# Altium footprint library STC16.PcbLib: 33 footprints (part 1 of 3)
Each footprint in its own frame and in the unit in brackets; x right, y up, seen from the top. Pads: shape width x height; smd on the part's side, far side on the other; paste and mask are expansions set on the pad; w line width, h text height; cw(c..) or ccw(c..) is an arc to the next point about the centre after c.
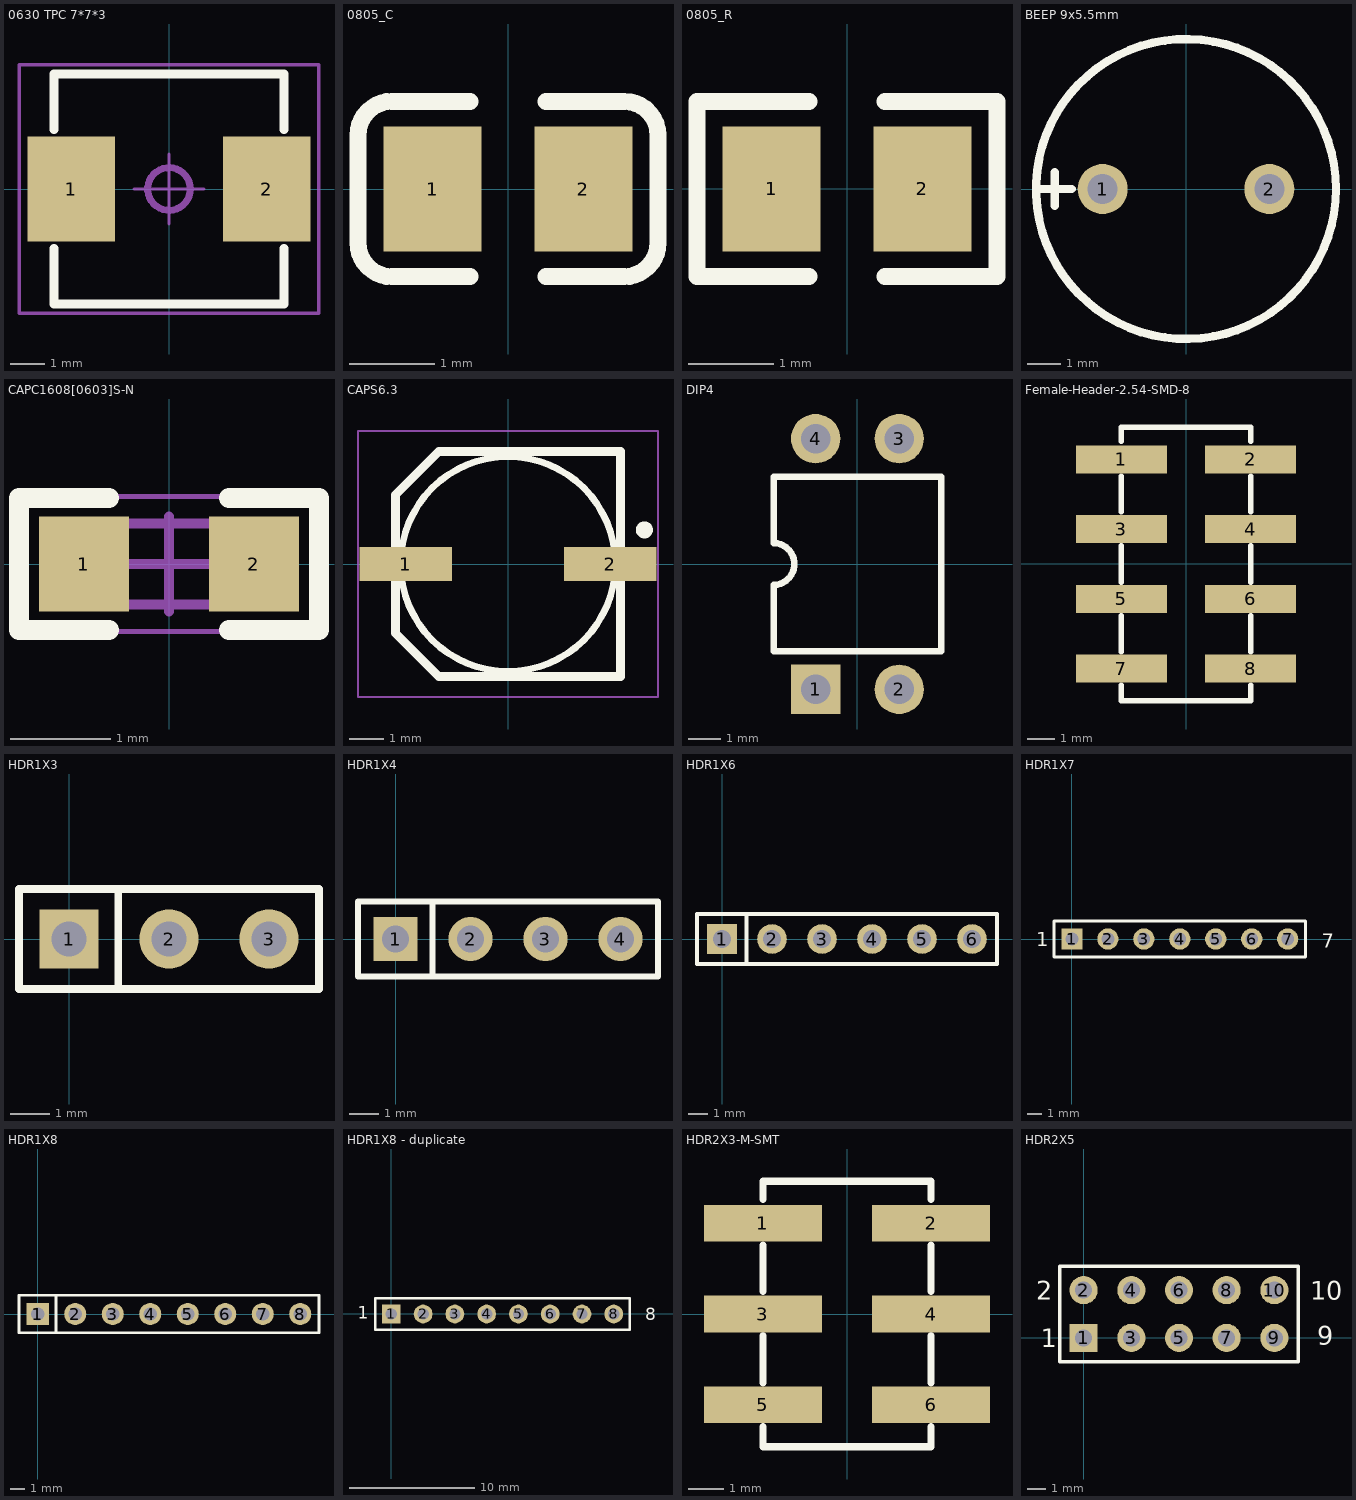
[diagram p0: the footprints below, top view; thin cyan lines are the x and y axes]

## 0630 TPC 7*7*3 [mm]
pads (2):
  rect 2.5x3 smd: 1(-2.8,0) 2(2.8,0)
Top Overlay:
  lines w0.254: -3.3,-1.7 -3.3,-3.3 3.3,-3.3 3.3,-1.7 ; -3.3,1.7 -3.3,3.3 3.3,3.3 3.3,1.7
Mechanical 15:
  circle w0.2: c0,0 r0.612
  lines w0.1: -1,0 1,0 ; 0,-1 0,1 ; -4.293,-3.556 4.293,-3.556 4.293,3.556 -4.293,3.556 -4.293,-3.556
3D body: height 3, standoff 0, extent -3.3,-3.3 3.3,3.3

## 0805_C [mm]
pads (2):
  rect 1.16x1.47 smd: 1(-0.89,0) 2(0.89,0)
Top Overlay:
  lines w0.2: -0.45,-1.035 -1.37,-1.035 cw(c-1.37,-0.635) -1.77,-0.635 -1.77,0.635 cw(c-1.37,0.635) -1.37,1.035 -0.45,1.035 ; 0.45,-1.035 1.37,-1.035 ccw(c1.37,-0.635) 1.77,-0.635 1.77,0.635 ccw(c1.37,0.635) 1.37,1.035 0.45,1.035
3D body "User Library-0805 SMD Capacitor.STEP": height 0.77, standoff -0.01, extent -0.999,-0.625 1.001,0.625

## 0805_R [mm]
pads (2):
  rect 1.16x1.47 smd: 1(-0.89,0) 2(0.89,0)
Top Overlay:
  lines w0.2: -0.45,-1.035 -1.77,-1.035 -1.77,1.035 -0.45,1.035 ; 0.45,-1.035 1.77,-1.035 1.77,1.035 0.45,1.035
3D body "User Library-R_0805.STEP": height 0.49, standoff -0.01, extent -0.997,-0.625 1.003,0.625

## BEEP 9x5.5mm [mm]
pads (2):
  round 1.5 hole 0.9: 1(-2.5,0) 2(2.5,0)
Top Overlay:
  circle w0.254: c0,0 r4.5
  lines w0.254: -4.496,0 -3.429,0 ; -3.937,-0.508 -3.937,0.508
3D body "cx-0905c.stp": height 5.05, standoff -5.45, extent -4.8,-4.8 4.8,4.8

## CAPC1608[0603]S-N [mm]
pads (2):
  rect 0.9x0.95 smd: 1(-0.85,0) 2(0.85,0)
Top Overlay:
  lines w0.2: -0.6,-0.66 -1.499,-0.66 -1.499,0.66 -0.6,0.66 ; 0.6,-0.66 1.499,-0.66 1.499,0.66 0.6,0.66
Mechanical 13:
  lines w0.1: -0.8,-0.406 0.825,-0.406 0.825,0.406 -0.8,0.406 -0.8,-0.406
Mechanical 15:
  lines w0.05: -1.5,-0.675 -1.5,0.675 1.5,0.675 1.5,-0.675 -1.5,-0.675
  lines w0.1: -0.475,0 0.475,0 ; 0,-0.475 0,0.475
3D body: height 0.79, standoff 0, extent -0.8,-0.406 -0.45,0.406
3D body: height 0.79, standoff 0, extent 0.45,-0.406 0.8,0.407
3D body: height 0.79, standoff 0, extent -0.45,-0.406 0.45,0.406

## CAPS6.3 [mm]
pads (2):
  rect 2.7x1 smd: 1(-3,0) 2(3,0)
Top Overlay:
  circle w0.25: c4,1 r0.125
  circle w0.2: c0,0 r3.15
  lines w0.254: -3.3,2.032 -3.3,-2.032 -2.032,-3.3 3.3,-3.3 3.3,3.3 -2.032,3.3 -3.287,2.045
Mechanical 15:
  lines w0.05: -4.4,-3.9 4.4,-3.9 4.4,3.9 -4.4,3.9 -4.4,-3.9
3D body "SL-E.step": height 5.2, standoff 0, extent -3.5,-3.302 3.5,3.298

## DIP4 [mm]
pads (4):
  rect 1.5x1.5 hole 0.9: 1(-1.27,-3.81)
  round 1.5 hole 0.9: 2(1.27,-3.81) 3(1.27,3.81) 4(-1.27,3.81)
Top Overlay:
  lines w0.2: -2.55,-2.65 2.55,-2.65 2.55,2.65 -2.55,2.65 -2.55,0.635 cw(c-2.55,0) -2.55,-0.635 -2.55,-2.65
3D body "Switch-DIP-2.STEP": height 7.03, standoff -3.67, extent -3.04,-4.95 3.04,4.95

## Female-Header-2.54-SMD-8 [mm]
pads (8):
  rect 3.3x1.02 smd: 1(-2.35,3.81) 2(2.35,3.81) 3(-2.35,1.27) 4(2.35,1.27) 5(-2.35,-1.27) 6(2.35,-1.27) 7(-2.35,-3.81) 8(2.35,-3.81)
Top Overlay:
  lines w0.2: -2.35,-4.42 -2.35,-4.978 2.35,-4.978 2.35,-4.42 ; -2.35,-3.2 -2.35,-1.88 ; -2.35,-0.66 -2.35,0.66 ; -2.35,1.905 -2.35,3.2 ; -2.35,4.47 -2.35,4.978 2.35,4.978 2.35,4.47 ; 2.35,-3.2 2.35,-1.88 ; 2.35,-0.66 2.35,0.66 ; 2.35,1.905 2.35,3.2
3D body "Female-Header-2.54-SMD-8.stp": height 5, standoff -0.1, extent -3.3,-5.33 3.3,5.33

## HDR1X3 [mm]
pads (3):
  rect 1.5x1.5 hole 0.9: 1(0,0)
  round 1.5 hole 0.9: 2(2.54,0) 3(5.08,0)
Top Overlay:
  lines w0.2: 1.25,-1.25 1.25,1.25 ; -1.27,-1.27 6.35,-1.27 6.35,1.27 -1.27,1.27 -1.27,-1.27
3D body "1001-3.STEP": height 8.54, standoff -3, extent -1.27,-1.27 6.35,1.27

## HDR1X4 [mm]
pads (4):
  rect 1.5x1.5 hole 0.9: 1(0,0)
  round 1.5 hole 0.9: 2(2.54,0) 3(5.08,0) 4(7.62,0)
Top Overlay:
  lines w0.2: 1.25,-1.25 1.25,1.25 ; -1.27,-1.27 -1.27,1.27 8.89,1.27 8.89,-1.27 -1.27,-1.27
3D body "1001-4.STEP": height 8.54, standoff -3, extent -1.27,-1.27 8.89,1.27

## HDR1X6 [mm]
pads (6):
  rect 1.5x1.5 hole 0.9: 1(0,0)
  round 1.5 hole 0.9: 2(2.54,0) 3(5.08,0) 4(7.62,0) 5(10.16,0) 6(12.7,0)
Top Overlay:
  lines w0.2: 1.25,-1.25 1.25,1.25 ; -1.27,-1.27 13.97,-1.27 13.97,1.27 -1.27,1.27 -1.27,-1.27
3D body "1001-6.STEP": height 8.54, standoff -3, extent -1.27,-1.27 13.97,1.27

## HDR1X7 [mm]
pads (7):
  rect 1.5x1.5 hole 0.9: 1(0,0)
  round 1.5 hole 0.9: 2(2.54,0) 3(5.08,0) 4(7.62,0) 5(10.16,0) 6(12.7,0) 7(15.24,0)
Top Overlay:
  lines w0.2: -1.27,-1.27 16.51,-1.27 16.51,1.27 -1.27,1.27 -1.27,-1.27
  text "1" at -2.54,-0.508 h1
  text "7" at 17.653,-0.635 h1

## HDR1X8 [mm]
pads (8):
  rect 1.5x1.5 hole 0.9: 1(0,0)
  round 1.5 hole 0.9: 2(2.54,0) 3(5.08,0) 4(7.62,0) 5(10.16,0) 6(12.7,0) 7(15.24,0) 8(17.78,0)
Top Overlay:
  lines w0.2: 1.25,-1.25 1.25,1.25 ; -1.27,-1.27 -1.27,1.27 19.05,1.27 19.05,-1.27 -1.27,-1.27
3D body "1001-8.STEP": height 8.54, standoff -3, extent -1.27,-1.27 19.05,1.27

## HDR1X8 - duplicate [mm]
pads (8):
  rect 1.5x1.5 hole 0.9: 1(0,0)
  round 1.5 hole 0.9: 2(2.54,0) 3(5.08,0) 4(7.62,0) 5(10.16,0) 6(12.7,0) 7(15.24,0) 8(17.78,0)
Top Overlay:
  lines w0.2: -1.27,-1.27 -1.27,1.27 19.05,1.27 19.05,-1.27 -1.27,-1.27
  text "1" at -2.667,-0.381 h1
  text "8" at 20.32,-0.508 h1

## HDR2X3-M-SMT [mm]
pads (6):
  rect 3.3x1.02 smd: 1(-2.35,2.54) 2(2.35,2.54) 3(-2.35,0) 4(2.35,0) 5(-2.35,-2.54) 6(2.35,-2.54)
Top Overlay:
  lines w0.2: -2.35,-3.15 -2.35,-3.708 2.35,-3.708 2.35,-3.15 ; -2.35,-1.93 -2.35,-0.61 ; -2.35,0.635 -2.35,1.93 ; -2.35,3.2 -2.35,3.708 2.35,3.708 2.35,3.2 ; 2.35,-1.93 2.35,-0.61 ; 2.35,0.635 2.35,1.93
3D body "Pin-Header-2.54-Straight_SMD-6.stp": height 9.74, standoff 0, extent -3.75,-3.81 3.75,3.81

## HDR2X5 [mm]
pads (10):
  rect 1.5x1.5 hole 0.9: 1(0,0)
  round 1.5 hole 0.9: 2(0,2.54) 3(2.54,0) 4(2.54,2.54) 5(5.08,0) 6(5.08,2.54) 7(7.62,0) 8(7.62,2.54) 9(10.16,0) 10(10.16,2.54)
Top Overlay:
  lines w0.2: -1.27,-1.27 11.43,-1.27 11.43,3.81 -1.27,3.81 -1.27,-1.27
  text "10" at 12.065,2.032 h1
  text "9" at 12.446,-0.381 h1
  text "1" at -2.286,-0.508 h1
  text "2" at -2.54,2.032 h1